# Altium footprint library DIODE_LIB.PcbLib: 1 footprints
Each footprint in its own frame and in the unit in brackets; x right, y up, seen from the top. Pads: shape width x height; smd on the part's side, far side on the other; paste and mask are expansions set on the pad; w line width, h text height; cw(c..) or ccw(c..) is an arc to the next point about the centre after c.
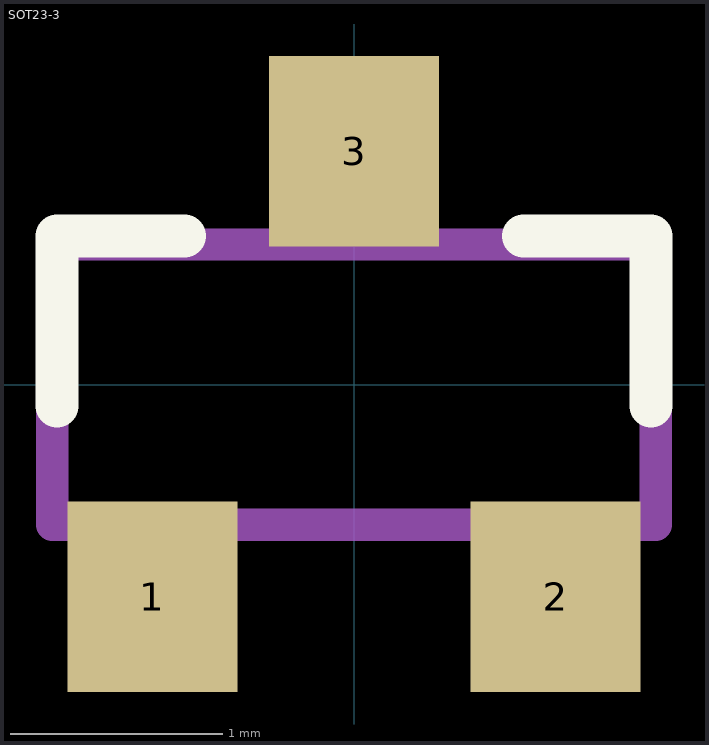
[diagram p0: the footprint, top view; thin cyan lines are the x and y axes]

## SOT23-3 [mm]
pads (3):
  rect 0.8x0.9 smd: 1(-0.95,-1) 2(0.95,-1) 3(0,1.1)
Top Overlay:
  lines w0.203: -1.4,-0.1 -1.4,0.7 -0.8,0.7 ; 0.8,0.7 1.4,0.7 1.4,-0.1
Mechanical 11:
  lines w0.152: -1.422,-0.66 1.422,-0.66 1.422,0.66 -1.422,0.66 -1.422,-0.66
3D body "SOT23-3.stp": height 1.2, standoff 0.02, extent -1.5,-1.392 1.5,1.443